# Altium footprint library General.PcbLib: 53 footprints (part 4 of 4)
Each footprint in its own frame and in the unit in brackets; x right, y up, seen from the top. Pads: shape width x height; smd on the part's side, far side on the other; paste and mask are expansions set on the pad; w line width, h text height; cw(c..) or ccw(c..) is an arc to the next point about the centre after c.
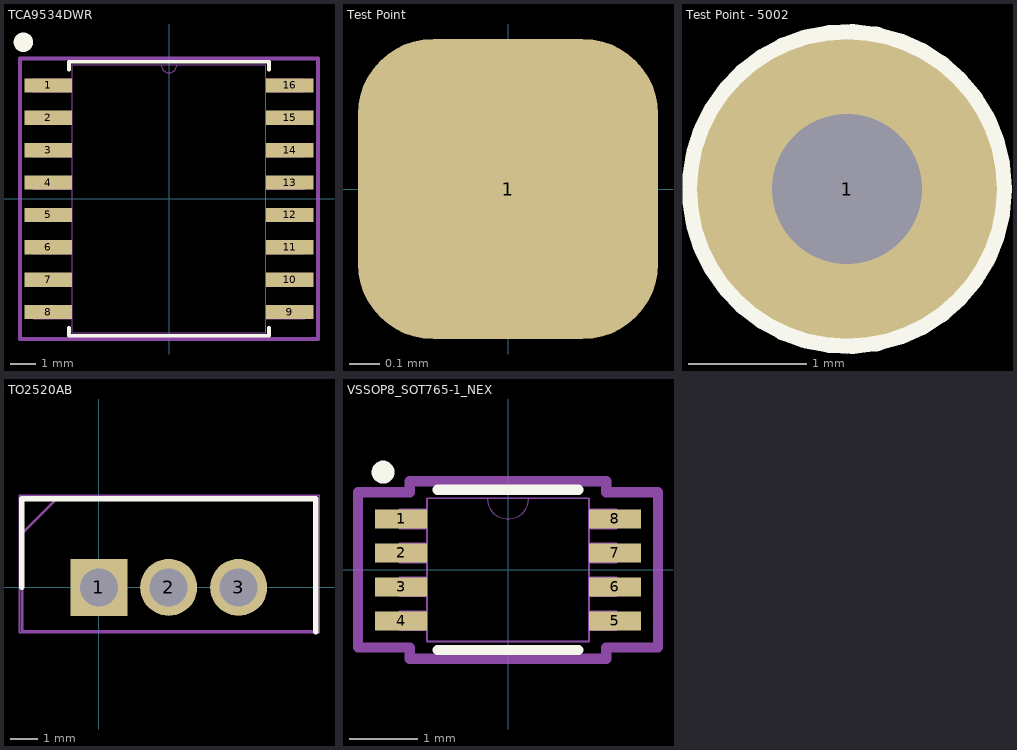
[diagram p3: the footprints below, top view; thin cyan lines are the x and y axes]

## TCA9534DWR [mm]
pads (16):
  rect 1.874x0.558 smd paste+0 mask+0.102: 1(-4.734,4.445) 2(-4.734,3.175) 3(-4.734,1.905) 4(-4.734,0.635) 5(-4.734,-0.635) 6(-4.734,-1.905) 7(-4.734,-3.175) 8(-4.734,-4.445) 9(4.734,-4.445) 10(4.734,-3.175) 11(4.734,-1.905) 12(4.734,-0.635) 13(4.734,0.635) 14(4.734,1.905) 15(4.734,3.175) 16(4.734,4.445)
Top Overlay:
  lines w0.152: -3.924,-5.057 -3.924,-5.372 3.924,-5.372 3.924,-5.057 ; -3.924,5.057 -3.924,5.372 3.924,5.372 3.924,5.057
  lines w0.508: -5.588,6.096 cw(c-5.708,6.136) -5.581,6.136
Mechanical 13:
  lines w0: -0.305,5.245 ccw(c0,5.245) 0.305,5.245
  lines w0.025: -5.321,-4.699 -5.321,-4.191 -3.797,-4.191 -3.797,-4.699 -5.321,-4.699 ; -5.321,-3.429 -5.321,-2.921 -3.797,-2.921 -3.797,-3.429 -5.321,-3.429 ; -5.321,-2.159 -5.321,-1.651 -3.797,-1.651 -3.797,-2.159 -5.321,-2.159 ; -5.321,-0.889 -5.321,-0.381 -3.797,-0.381 -3.797,-0.889 -5.321,-0.889 ; -5.321,0.381 -5.321,0.889 -3.797,0.889 -3.797,0.381 -5.321,0.381 ; -5.321,1.651 -5.321,2.159 -3.797,2.159 -3.797,1.651 -5.321,1.651 ; -5.321,2.921 -5.321,3.429 -3.797,3.429 -3.797,2.921 -5.321,2.921 ; -5.321,4.191 -5.321,4.699 -3.797,4.699 -3.797,4.191 -5.321,4.191 ; -3.797,-5.245 3.797,-5.245 3.797,5.245 -3.797,5.245 -3.797,-5.245 ; 3.797,-4.699 3.797,-4.191 5.321,-4.191 5.321,-4.699 3.797,-4.699 ; 3.797,-3.429 3.797,-2.921 5.321,-2.921 5.321,-3.429 3.797,-3.429 ; 3.797,-2.159 3.797,-1.651 5.321,-1.651 5.321,-2.159 3.797,-2.159 ; 3.797,-0.889 3.797,-0.381 5.321,-0.381 5.321,-0.889 3.797,-0.889 ; 3.797,0.381 3.797,0.889 5.321,0.889 5.321,0.381 3.797,0.381 ; 3.797,1.651 3.797,2.159 5.321,2.159 5.321,1.651 3.797,1.651 ; 3.797,2.921 3.797,3.429 5.321,3.429 5.321,2.921 3.797,2.921 ; 3.797,4.191 3.797,4.699 5.321,4.699 5.321,4.191 3.797,4.191
Mechanical 15:
  lines w0.152: -5.842,-5.499 -5.842,5.499 -4.051,5.499 4.051,5.499 5.842,5.499 5.842,-5.499 4.051,-5.499 -4.051,-5.499 -5.842,-5.499
3D body "DW16_TEX.step": height 2.64, standoff 0, extent -5.321,-5.245 5.321,5.245

## Test Point [mm] "Test Point"
pads (1):
  rrect50% 1x1 smd: 1(0,0)

## Test Point - 5002 [mm] "5002 - PCB TEST POINT WHITE .040"
pads (1):
  round 2.54 hole 1.27: 1(0,0)
Top Overlay:
  circle w0.254: c0,0 r1.27
3D body "keystone-PN5002.STEP": height 4.57, standoff -3.05, extent -1.27,-1.27 1.27,1.27

## TO2520AB [mm]
height 16.51
pads (3):
  rect 2.07x2.07 hole 1.38: 1(0,0)
  round 2.07 hole 1.38: 2(2.54,0) 3(5.08,0)
Top Overlay:
  lines w0.2: -2.795,0 -2.795,3.225 7.875,3.225 7.875,-1.605
Mechanical 13:
  lines w0.1: -2.795,1.955 -1.525,3.225 ; -2.795,-1.605 7.875,-1.605 7.875,3.225 -2.795,3.225 -2.795,-1.605
Mechanical 15:
  lines w0.05: -2.9,-1.65 8,-1.65 8,3.35 -2.9,3.35 -2.9,-1.65
3D body "IRF2807PBF.stp": height 18.86, standoff -17.4, extent -2.54,-1.605 7.62,3.225

## VSSOP8_SOT765-1_NEX [mil] "IC GATE OR 2CH 2-INP 8TSSOP"
pads (8):
  rect 30x11 smd paste+0 mask+0: 1(-62,29.53) 2(-62,9.84) 3(-62,-9.84) 4(-62,-29.53) 5(62,-29.53) 6(62,-9.84) 7(62,9.84) 8(62,29.53)
Top Overlay:
  circle w10: c-72.44,56.69 r1.62
  lines w6: -40.68,-46.5 40.68,-46.5 ; -40.68,46.5 40.68,46.5
Mechanical 13:
  lines w0: -12,41.5 ccw(c0,41.5) 12,41.5
  lines w1: -63,-35.03 -63,-24.03 -47,-24.03 -47,-35.03 -63,-35.03 ; -63,-15.34 -63,-4.34 -47,-4.34 -47,-15.34 -63,-15.34 ; -63,4.34 -63,15.34 -47,15.34 -47,4.34 -63,4.34 ; -63,24.03 -63,35.03 -47,35.03 -47,24.03 -63,24.03 ; -47,-41.5 47,-41.5 47,41.5 -47,41.5 -47,-41.5 ; 47,-35.03 47,-24.03 63,-24.03 63,-35.03 47,-35.03 ; 47,-15.34 47,-4.34 63,-4.34 63,-15.34 47,-15.34 ; 47,4.34 47,15.34 63,15.34 63,4.34 47,4.34 ; 47,24.03 47,35.03 63,35.03 63,24.03 47,24.03
Mechanical 15:
  lines w6: -87,-45.03 -87,45.03 -57,45.03 -57,51.5 57,51.5 57,45.03 87,45.03 87,-45.03 57,-45.03 57,-51.5 -57,-51.5 -57,-45.03 -87,-45.03
3D body "VSSOP8_SOT765-1_NEX.step": height 39.09, standoff 0, extent -62.99,-41.5 62.99,41.5